# Altium footprint library BTS7960B.PcbLib: 4 footprints
Each footprint in its own frame and in the unit in brackets; x right, y up, seen from the top. Pads: shape width x height; smd on the part's side, far side on the other; paste and mask are expansions set on the pad; w line width, h text height; cw(c..) or ccw(c..) is an arc to the next point about the centre after c.
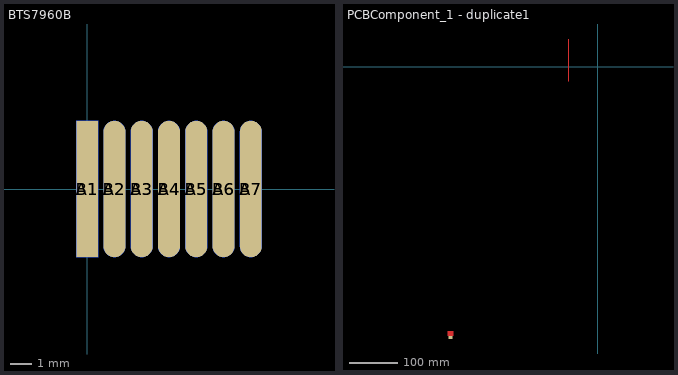
[diagram p0: the footprints below, top view; thin cyan lines are the x and y axes]

## BTS7960B [mil]
pads (14):
  rect 40x250 smd: A1(0,0)
  oval 40x250 smd: A2(50,0) A3(100,0) A4(150,0) A5(200,0) A6(250,0) A7(300,0)
  rect 40x250 smd far side: B1(0,0)
  oval 40x250 smd far side: B2(50,0) B3(100,0) B4(150,0) B5(200,0) B6(250,0) B7(300,0)

## PCBComponent_1 [mil]

## PCBComponent_1 - duplicate [mil]

## PCBComponent_1 - duplicate1 [mil]
pads (7):
  rect 35x250 all layers, no hole: 1(-12137.4,-22025)
  oval 35x250 all layers, no hole: 2(-12087.4,-22025) 3(-12037.4,-22025) 4(-11987.4,-22025) 5(-11937.4,-22025) 6(-11887.4,-22025) 7(-11837.4,-22025)
Top Layer:
  region: -12200,-21500 -11774.8,-21500 -11774.8,-21870.08 -12200,-21870.08
  lines w10: -2345,-1175 -2345,2270